# Altium footprint library PCB - CONNECTOR - WURTH - WURTH 61202021621.PCBLIB: 1 footprints
Each footprint in its own frame and in the unit in brackets; x right, y up, seen from the top. Pads: shape width x height; smd on the part's side, far side on the other; paste and mask are expansions set on the pad; w line width, h text height; cw(c..) or ccw(c..) is an arc to the next point about the centre after c.
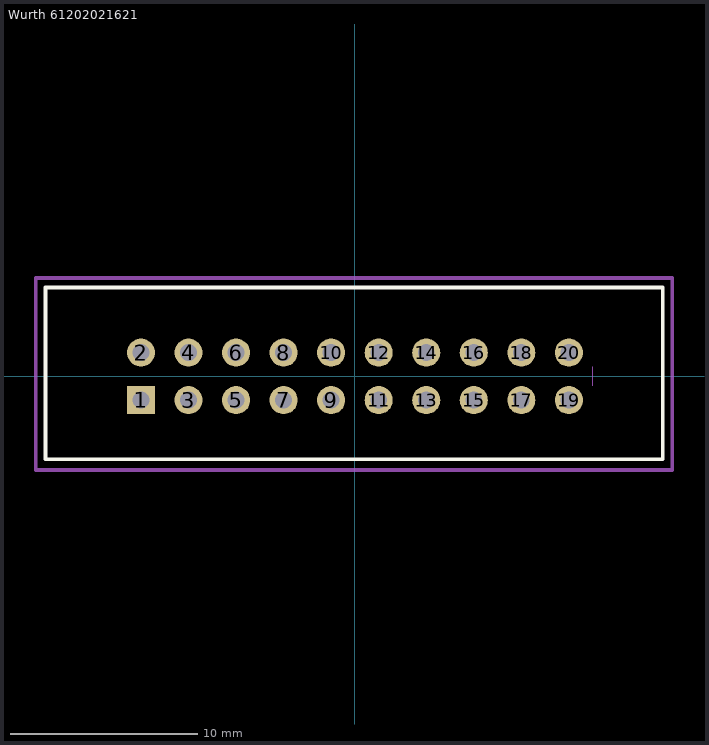
[diagram p0: the footprint, top view; thin cyan lines are the x and y axes]

## Wurth 61202021621 [mm]
pads (20):
  rect 1.5x1.5 hole 0.9: 1(-11.43,-1.27)
  round 1.5 hole 0.9: 2(-11.43,1.27) 3(-8.89,-1.27) 4(-8.89,1.27) 5(-6.35,-1.27) 6(-6.35,1.27) 7(-3.81,-1.27) 8(-3.81,1.27) 9(-1.27,-1.27) 10(-1.27,1.27) 11(1.27,-1.27) 12(1.27,1.27) 13(3.81,-1.27) 14(3.81,1.27) 15(6.35,-1.27) 16(6.35,1.27) 17(8.89,-1.27) 18(8.89,1.27) 19(11.43,-1.27) 20(11.43,1.27)
Top Overlay:
  lines w0.2: -16.53,-4.425 16.45,-4.425 16.45,4.75 -16.53,4.75 -16.53,-4.425
Mechanical 13:
  lines w0.1: -16.53,-4.425 16.45,-4.425 16.45,4.75 -16.53,4.75 -16.53,-4.425
Mechanical 15:
  lines w0.05: 12.7,-0.5 12.7,0.5
  lines w0.2: -17.05,-5 -17.05,5.25 16.95,5.25 16.95,-5 -17.05,-5
3D body "Wurth 61202021621.step": height 9.13, standoff -2.98, extent -16.53,-4.425 16.53,4.75